# Altium footprint library PcbLib.PcbLib: 1 footprints
Each footprint in its own frame and in the unit in brackets; x right, y up, seen from the top. Pads: shape width x height; smd on the part's side, far side on the other; paste and mask are expansions set on the pad; w line width, h text height; cw(c..) or ccw(c..) is an arc to the next point about the centre after c.
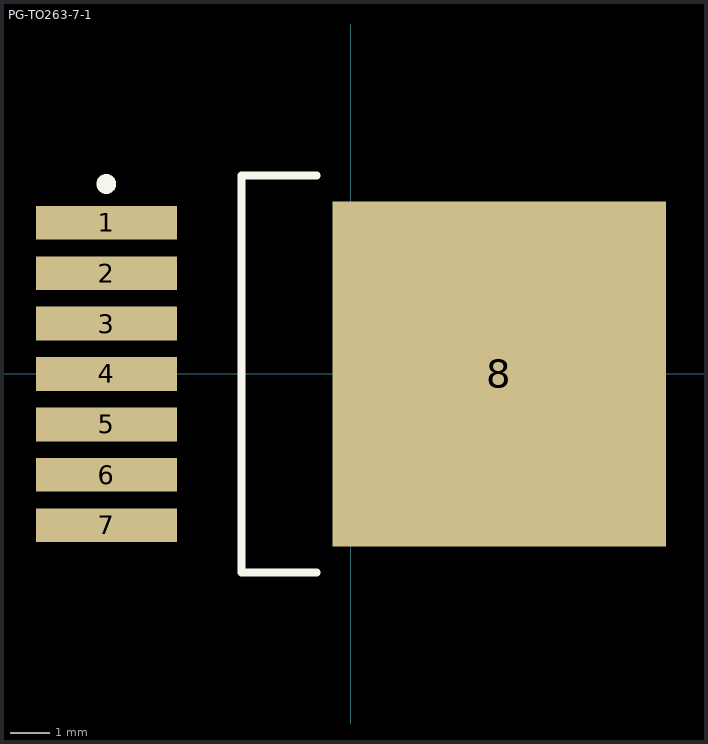
[diagram p0: the footprint, top view; thin cyan lines are the x and y axes]

## PG-TO263-7-1 [mm] "D2-PAK, 8-Pads, Body 7.73x8.36mm (max), IPC Medium Density"
height 4.4
pads (8):
  rect 3.55x0.85 smd: 1(-6.15,3.81) 2(-6.15,2.54) 3(-6.15,1.27) 4(-6.15,0) 5(-6.15,-1.27) 6(-6.15,-2.54) 7(-6.15,-3.81)
  rect 8.4x8.7 smd: 8(3.75,0)
Top Overlay:
  circle w0.25: c-6.15,4.785 r0.125
  lines w0.2: -0.85,-5 -2.75,-5 -2.75,5 -0.85,5